# EAGLE library part 4455-B23 (library con-molex-kk)
RECEPTACAL
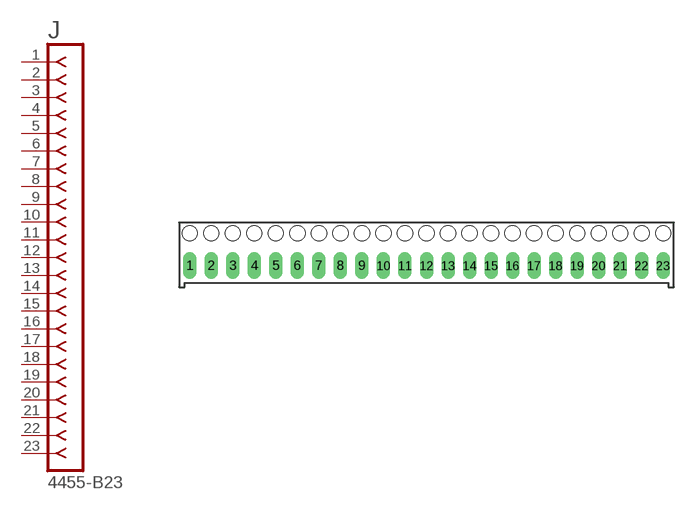
[diagram p14: symbol with the pads of 4455-B23; footprint 4455-B23]

Designator prefix J

## 4455-B23  [4455-B23]
1  1  pas
2  2  pas
3  3  pas
4  4  pas
5  5  pas
6  6  pas
7  7  pas
8  8  pas
9  9  pas
10  10  pas
11  11  pas
12  12  pas
13  13  pas
14  14  pas
15  15  pas
16  16  pas
17  17  pas
18  18  pas
19  19  pas
20  20  pas
21  21  pas
22  22  pas
23  23  pas

## Footprint 4455-B23 (pad centres in mm)
RECEPTACAL Vertical, Bottom Entry, 0.1" pitch
drill 1.067 long: 1 -27.94,0; 2 -25.4,0; 3 -22.86,0; 4 -20.32,0; 5 -17.78,0; 6 -15.24,0; 7 -12.7,0; 8 -10.16,0; 9 -7.62,0; 10 -5.08,0; 11 -2.54,0; 12 0,0; 13 2.54,0; 14 5.08,0; 15 7.62,0; 16 10.16,0; 17 12.7,0; 18 15.24,0; 19 17.78,0; 20 20.32,0; 21 22.86,0; 22 25.4,0; 23 27.94,0
hole 1.778 at -27.94,3.81
hole 1.778 at -25.4,3.81
hole 1.778 at -22.86,3.81
hole 1.778 at -20.32,3.81
hole 1.778 at -17.78,3.81
hole 1.778 at -15.24,3.81
hole 1.778 at -12.7,3.81
hole 1.778 at -10.16,3.81
hole 1.778 at -7.62,3.81
hole 1.778 at -5.08,3.81
hole 1.778 at -2.54,3.81
hole 1.778 at 0,3.81
hole 1.778 at 2.54,3.81
hole 1.778 at 5.08,3.81
hole 1.778 at 7.62,3.81
hole 1.778 at 10.16,3.81
hole 1.778 at 12.7,3.81
hole 1.778 at 15.24,3.81
hole 1.778 at 17.78,3.81
hole 1.778 at 20.32,3.81
hole 1.778 at 22.86,3.81
hole 1.778 at 25.4,3.81
hole 1.778 at 27.94,3.81